# EAGLE library part 750032051 (library 750032051)
Flyback Converter WE-FB for LT3751 Source: Datasheet
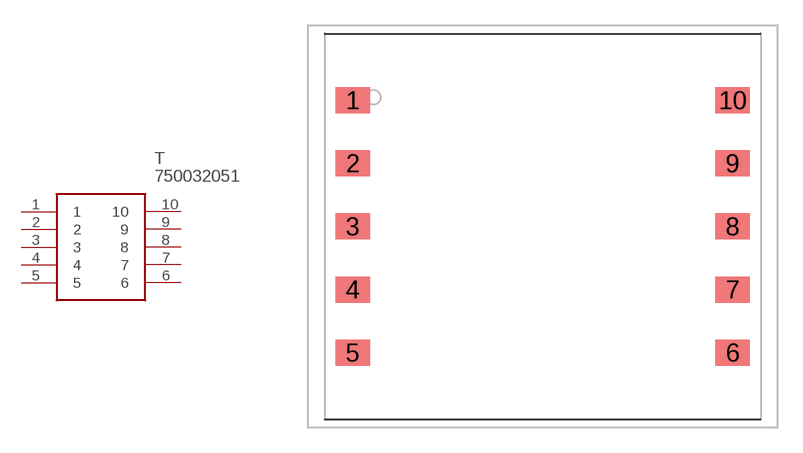
[diagram p0: symbol with the pads of WE_EFD20_SMD_10PIN16; footprint WE_EFD20_SMD_10PIN16]

Designator prefix T

## 750032051 (Description: Flyback Converter WE-FB for LT3751; Height: mm; Manufacturer_Name: Wurth Elektronik; Manufacturer_Part_Number: 750032051; Mouser_Part_Number: 710-750032051; Mouser_Price-Stock: https://www.mouser.co.uk/ProductDetail/Wurth-Elektronik/750032051?qs=%252BUQ4csG8Rsfs0%252BMrc6GtxA%3D%3D)  [WE_EFD20_SMD_10PIN16]
1  1
2  2
3  3
4  4
5  5
6  6
7  7
8  8
9  9
10  10

## Footprint WE_EFD20_SMD_10PIN16 (pad centres in mm)
WE_EFD20_SMD_10PIN16
smd 2.08 x 1.55: 1 -11.33,7.52; 2 -11.33,3.76; 3 -11.33,0; 4 -11.33,-3.76; 5 -11.33,-7.52; 6 11.33,-7.52; 7 11.33,-3.76; 8 11.33,0; 9 11.33,3.76; 10 11.33,7.52